# Altium schematic symbol library SN7485N.SchLib: 1 symbol
Pins are listed as number, name and electrical type; pins without a type are passive.

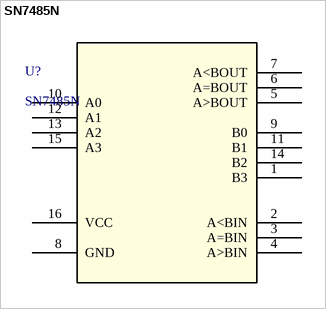
[diagram p0: symbol SN7485N]

## SN7485N
designator U?
4-bit Magnitude Comparator; Manufacturer_Name: Texas Instruments; Copyright: Copyright (C) 2025 Ultra Librarian. All rights reserved.; Manufacturer_Part_Number: SN7485N; RefDes: RefDes; Type: Type
footprint DIP16_300
pins: 1 B3, 2 A<BIN, 3 A=BIN, 4 A>BIN, 5 A>BOUT, 6 A=BOUT, 7 A<BOUT, 8 GND, 9 B0, 10 A0, 11 B1, 12 A1, 13 A2, 14 B2, 15 A3, 16 VCC